# EAGLE library part ARDUINOR3 (library Qtechknow)
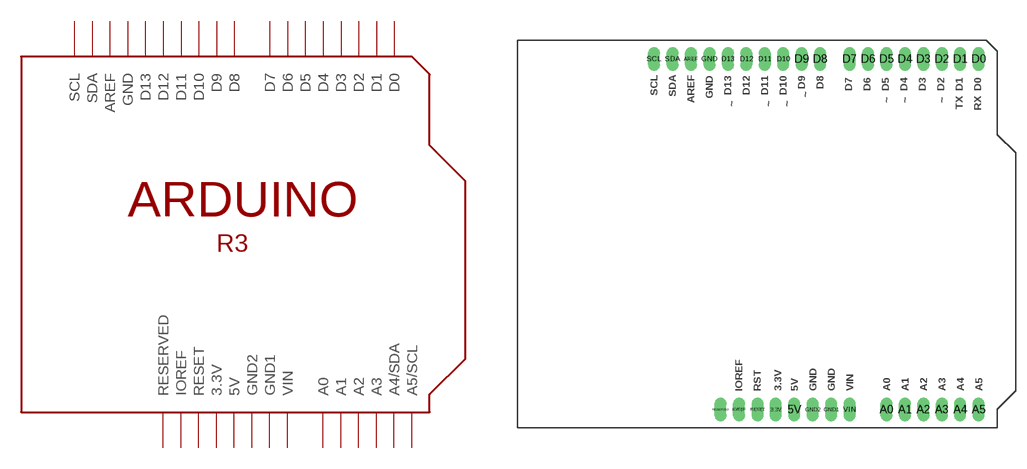
[diagram p0: symbol with the pads of ARDUINOR3; footprint ARDUINOR3]

Designator prefix -

## ARDUINOR3  [ARDUINOR3]
3.3V  3.3V  pwr
5V  5V  pwr
A0  A0
A1  A1
A2  A2
A3  A3
A4  A4/SDA
A5  A5/SCL
AREF  AREF
D0  D0
D1  D1
D2  D2
D3  D3
D4  D4
D5  D5
D6  D6
D7  D7
D8  D8
D9  D9
D10  D10
D11  D11
D12  D12
D13  D13
GND  GND  pwr
GND1  GND1  pwr
GND2  GND2  pwr
IOREF  IOREF  out
RESERVED  RESERVED  nc
RESET  RESET
SCL  SCL
SDA  SDA
VIN  VIN  pwr

## Footprint ARDUINOR3 (pad centres in mm)
Arduino R3 Footprint for shields
drill 1 pad 1.676 long: 3.3V -2.54,-22.86; 5V 0,-22.86; A0 12.7,-22.86; A1 15.24,-22.86; A2 17.78,-22.86; A3 20.32,-22.86; A4 22.86,-22.86; A5 25.4,-22.86; AREF -14.224,25.4; D0 25.4,25.4; D1 22.86,25.4; D2 20.32,25.4; D3 17.78,25.4; D4 15.24,25.4; D5 12.7,25.4; D6 10.16,25.4; D7 7.62,25.4; D8 3.556,25.4; D9 1.016,25.4; D10 -1.524,25.4; D11 -4.064,25.4; D12 -6.604,25.4; D13 -9.144,25.4; GND -11.684,25.4; GND1 5.08,-22.86; GND2 2.54,-22.86; IOREF -7.62,-22.86; RESERVED -10.16,-22.86; RESET -5.08,-22.86; SCL -19.304,25.4; SDA -16.764,25.4; VIN 7.62,-22.86